# Altium schematic symbol library Schlib1.SchLib: 2 symbols
Pins are listed as number, name and electrical type; pins without a type are passive.

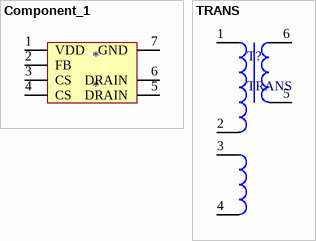
[diagram p0: symbols Component_1 to TRANS]

## Component_1
designator *
pins: 1 VDD, 2 FB, 3 CS, 4 CS, 5 DRAIN, 6 DRAIN, 7 GND

## TRANS
designator T?
变压器
pins: 1, 2, 3, 4 5, 5, 6